# Altium footprint library Connectors.PcbLib: 19 footprints (part 2 of 2)
Each footprint in its own frame and in the unit in brackets; x right, y up, seen from the top. Pads: shape width x height; smd on the part's side, far side on the other; paste and mask are expansions set on the pad; w line width, h text height; cw(c..) or ccw(c..) is an arc to the next point about the centre after c.
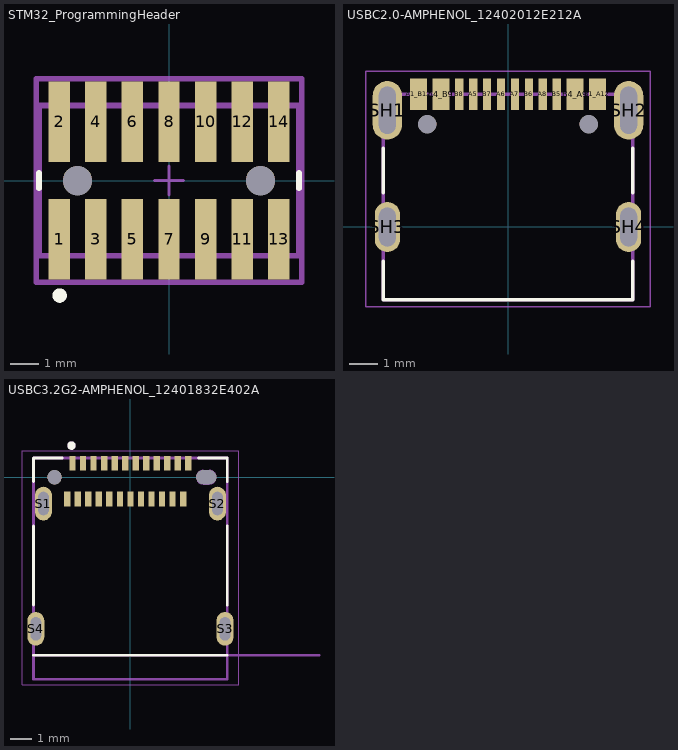
[diagram p1: the footprints below, top view; thin cyan lines are the x and y axes]

## STM32_ProgrammingHeader [mm]
pads (16):
  rect 0.74x2.79 smd paste+0 mask+0: 1(-3.81,-2.035) 2(-3.81,2.035) 3(-2.54,-2.035) 4(-2.54,2.035) 5(-1.27,-2.035) 6(-1.27,2.035) 7(0,-2.035) 8(0,2.035) 9(1.27,-2.035) 10(1.27,2.035) 11(2.54,-2.035) 12(2.54,2.035) 13(3.81,-2.035) 14(3.81,2.035)
  round 1.02 hole 1.02 unplated paste-2539.97 mask+0: ""(-3.175,0) ""(3.175,0)
Top Overlay:
  circle w0.25: c-3.795,-3.99 r0.125
  lines w0.2: -4.508,-0.265 -4.508,0.265 ; 4.508,-0.265 4.508,0.265
Top 3D Body:
  lines w0.2: -4.508,-2.605 4.508,-2.605 4.508,2.605 -4.508,2.605 -4.508,-2.605
Top Courtyard:
  lines w0.2: -4.608,-3.53 4.608,-3.53 4.608,3.53 -4.608,3.53 -4.608,-3.53
Top Assembly:
  lines w0.2: -4.608,-3.53 4.608,-3.53 4.608,3.53 -4.608,3.53 -4.608,-3.53
  text ".Designator" at 0,0.188 h1
Top Component Center:
  lines w0.1: -0.5,0 0.5,0 ; 0,-0.5 0,0.5
3D body "Conn_Samtec_FTSH-107-01-L-DV-K-A_eec.STEP": height 0.25, standoff 0, extent -4.608,-3.53 4.608,3.53

## USBC2.0-AMPHENOL_12402012E212A [mm]
height 3.26
pads (18):
  rect 0.6x1.14 smd: A1_B12(-3.2,4.75) A4_B9(-2.4,4.75) B1_A12(3.2,4.75) B4_A9(2.4,4.75)
  rect 0.3x1.14 smd: A5(-1.25,4.75) A6(-0.25,4.75) A7(0.25,4.75) A8(1.25,4.75) B5(1.75,4.75) B6(0.75,4.75) B7(-0.75,4.75) B8(-1.75,4.75)
  oval 1.05x2.1 hole 0.6 slot 1.7 at 90 deg: SH1(-4.32,4.18) SH2(4.32,4.18)
  oval 0.9x1.8 hole 0.6 slot 1.4 at 90 deg: SH3(-4.32,0) SH4(4.32,0)
  round 0.65 hole 0.65 unplated: ""(-2.89,3.68) ""(2.89,3.68)
Top Overlay:
  lines w0.127: -4.47,-1.22 -4.47,-2.6 4.47,-2.6 4.47,-1.22 ; -4.47,1.22 -4.47,2.81 ; 4.47,1.22 4.47,2.81
Mechanical 13:
  lines w0.127: -4.47,-2.6 -4.47,4.75 4.47,4.75 4.47,-2.6 -4.47,-2.6
Mechanical 15:
  lines w0.05: -5.095,-2.85 5.095,-2.85 5.095,5.57 -5.095,5.57 -5.095,-2.85
3D body "step_temp.STEP": height 3.21, standoff -0.96, extent -4.47,-2.54 4.47,5.06

## USBC3.2G2-AMPHENOL_12401832E402A [mm]
pads (30):
  rect 0.3x0.7 smd: A1(-2.75,0.66) A2(-2.25,0.66) A3(-1.75,0.66) A4(-1.25,0.66) A5(-0.75,0.66) A6(-0.25,0.66) A7(0.25,0.66) A8(0.75,0.66) A9(1.25,0.66) A10(1.75,0.66) A11(2.25,0.66) A12(2.75,0.66) B1(2.5,-1.04) B2(2,-1.04) B3(1.5,-1.04) B4(1,-1.04) B5(0.5,-1.04) B6(0,-1.04) B7(-0.5,-1.04) B8(-1,-1.04) B9(-1.5,-1.04) B10(-2,-1.04) B11(-2.5,-1.04) B12(-3,-1.04)
  oval 0.8x1.6 hole 0.5 slot 1.1 at 90 deg: S1(-4.13,-1.25) S2(4.13,-1.25) S3(4.49,-7.2) S4(-4.49,-7.2)
  round 0.675 hole 0.675 unplated: ""(-3.6,0)
  oval 0.95x0.65 hole 0.65 slot 0.95 at 0 deg unplated: ""(3.6,0)
Top Overlay:
  circle w0.2: c-2.8,1.5 r0.1
  lines w0.127: -4.6,-8.45 4.6,-8.45 ; -4.6,-6.07 -4.6,-2.32 ; -4.6,-0.2 -4.6,0.91 -3.23,0.91 ; 3.23,0.91 4.6,0.91 4.6,-0.2 ; 4.6,-6.07 4.6,-2.32
Mechanical 1:
  lines w0: 3.45,-0.325 cw(c3.45,0) 3.45,0.325 3.75,0.325 cw(c3.75,0) 3.75,-0.325 3.45,-0.325
Mechanical 13:
  circle w0.2: c-2.8,1.5 r0.1
  lines w0.127: 8.95,-8.45 -4.6,-8.45 ; -4.6,-8.45 -4.6,0.91 4.6,0.91 4.6,-9.59 -4.6,-9.59 -4.6,-8.45
  text "PCB Edge" at 5.2,-8.15 h0.61
Mechanical 15:
  lines w0.05: -5.14,-9.84 5.14,-9.84 5.14,1.26 -5.14,1.26 -5.14,-9.84
3D body "step_temp.STEP": height 3.27, standoff -0.91, extent -4.628,-9.563 4.572,0.927